# Altium footprint library MCU Board.PCBLIB: 34 footprints (part 2 of 3)
Each footprint in its own frame and in the unit in brackets; x right, y up, seen from the top. Pads: shape width x height; smd on the part's side, far side on the other; paste and mask are expansions set on the pad; w line width, h text height; cw(c..) or ccw(c..) is an arc to the next point about the centre after c.
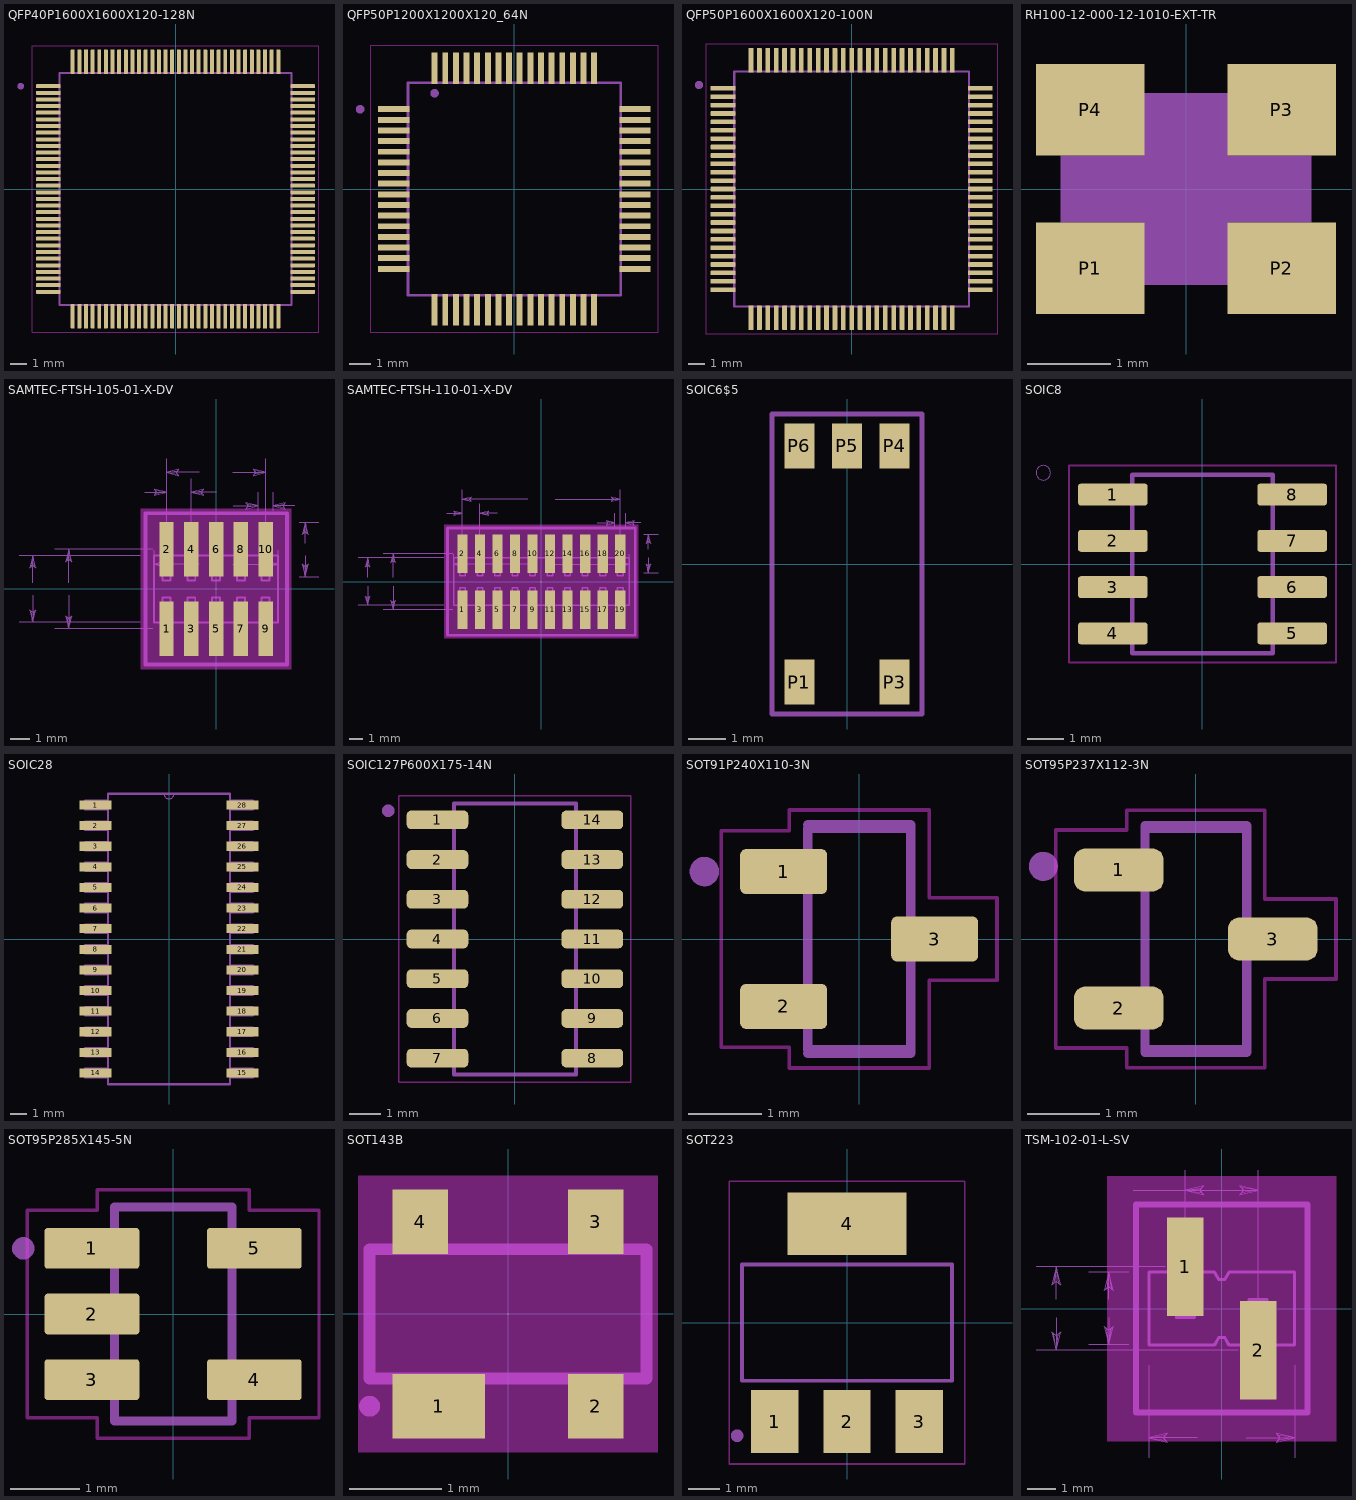
[diagram p1: the footprints below, top view; thin cyan lines are the x and y axes]

## QFP40P1600X1600X120-128N [mm]
pads (128):
  rrect25% 1.47x0.24 smd: 1(-7.67,6.2) 2(-7.67,5.8) 3(-7.67,5.4) 4(-7.67,5) 5(-7.67,4.6) 6(-7.67,4.2) 7(-7.67,3.8) 8(-7.67,3.4) 9(-7.67,3) 10(-7.67,2.6) 11(-7.67,2.2) 12(-7.67,1.8) 13(-7.67,1.4) 14(-7.67,1) 15(-7.67,0.6) 16(-7.67,0.2) 17(-7.67,-0.2) 18(-7.67,-0.6) 19(-7.67,-1) 20(-7.67,-1.4) 21(-7.67,-1.8) 22(-7.67,-2.2) 23(-7.67,-2.6) 24(-7.67,-3) 25(-7.67,-3.4) 26(-7.67,-3.8) 27(-7.67,-4.2) 28(-7.67,-4.6) 29(-7.67,-5) 30(-7.67,-5.4) 31(-7.67,-5.8) 32(-7.67,-6.2) 65(7.67,-6.2) 66(7.67,-5.8) 67(7.67,-5.4) 68(7.67,-5) 69(7.67,-4.6) 70(7.67,-4.2) 71(7.67,-3.8) 72(7.67,-3.4) 73(7.67,-3) 74(7.67,-2.6) 75(7.67,-2.2) 76(7.67,-1.8) 77(7.67,-1.4) 78(7.67,-1) 79(7.67,-0.6) 80(7.67,-0.2) 81(7.67,0.2) 82(7.67,0.6) 83(7.67,1) 84(7.67,1.4) 85(7.67,1.8) 86(7.67,2.2) 87(7.67,2.6) 88(7.67,3) 89(7.67,3.4) 90(7.67,3.8) 91(7.67,4.2) 92(7.67,4.6) 93(7.67,5) 94(7.67,5.4) 95(7.67,5.8) 96(7.67,6.2)
  rrect25% 0.24x1.47 smd: 33(-6.2,-7.67) 34(-5.8,-7.67) 35(-5.4,-7.67) 36(-5,-7.67) 37(-4.6,-7.67) 38(-4.2,-7.67) 39(-3.8,-7.67) 40(-3.4,-7.67) 41(-3,-7.67) 42(-2.6,-7.67) 43(-2.2,-7.67) 44(-1.8,-7.67) 45(-1.4,-7.67) 46(-1,-7.67) 47(-0.6,-7.67) 48(-0.2,-7.67) 49(0.2,-7.67) 50(0.6,-7.67) 51(1,-7.67) 52(1.4,-7.67) 53(1.8,-7.67) 54(2.2,-7.67) 55(2.6,-7.67) 56(3,-7.67) 57(3.4,-7.67) 58(3.8,-7.67) 59(4.2,-7.67) 60(4.6,-7.67) 61(5,-7.67) 62(5.4,-7.67) 63(5.8,-7.67) 64(6.2,-7.67) 97(6.2,7.67) 98(5.8,7.67) 99(5.4,7.67) 100(5,7.67) 101(4.6,7.67) 102(4.2,7.67) 103(3.8,7.67) 104(3.4,7.67) 105(3,7.67) 106(2.6,7.67) 107(2.2,7.67) 108(1.8,7.67) 109(1.4,7.67) 110(1,7.67) 111(0.6,7.67) 112(0.2,7.67) 113(-0.2,7.67) 114(-0.6,7.67) 115(-1,7.67) 116(-1.4,7.67) 117(-1.8,7.67) 118(-2.2,7.67) 119(-2.6,7.67) 120(-3,7.67) 121(-3.4,7.67) 122(-3.8,7.67) 123(-4.2,7.67) 124(-4.6,7.67) 125(-5,7.67) 126(-5.4,7.67) 127(-5.8,7.67) 128(-6.2,7.67)
Top keep-out:
  lines w0.05: -8.655,-8.655 8.655,-8.655 8.655,8.655 -8.655,8.655 -8.655,-8.655
tDocu:
  circle w0.2: c-9.34,6.2 r0.1
  lines w0.127: -7,-7 7,-7 7,7 -7,7 -7,-7
tPlace:
  circle w0.2: c-9.34,6.2 r0.1
  lines w0.127: -7,-6.64 -7,-7 -6.64,-7 ; -7,6.64 -7,7 -6.64,7 ; 6.64,-7 7,-7 7,-6.64 ; 6.64,7 7,7 7,6.64

## QFP50P1200X1200X120_64N [mil]
pads (64):
  rect 57.87x11.02 smd: 1(-223.23,147.64) 2(-223.23,127.95) 3(-223.23,108.27) 4(-223.23,88.58) 5(-223.23,68.9) 6(-223.23,49.21) 7(-223.23,29.53) 8(-223.23,9.84) 9(-223.23,-9.84) 10(-223.23,-29.53) 11(-223.23,-49.21) 12(-223.23,-68.9) 13(-223.23,-88.58) 14(-223.23,-108.27) 15(-223.23,-127.95) 16(-223.23,-147.64) 33(223.23,-147.64) 34(223.23,-127.95) 35(223.23,-108.27) 36(223.23,-88.58) 37(223.23,-68.9) 38(223.23,-49.21) 39(223.23,-29.53) 40(223.23,-9.84) 41(223.23,9.84) 42(223.23,29.53) 43(223.23,49.21) 44(223.23,68.9) 45(223.23,88.58) 46(223.23,108.27) 47(223.23,127.95) 48(223.23,147.64)
  rect 11.02x57.87 smd: 17(-147.64,-223.23) 18(-127.95,-223.23) 19(-108.27,-223.23) 20(-88.58,-223.23) 21(-68.9,-223.23) 22(-49.21,-223.23) 23(-29.53,-223.23) 24(-9.84,-223.23) 25(9.84,-223.23) 26(29.53,-223.23) 27(49.21,-223.23) 28(68.9,-223.23) 29(88.58,-223.23) 30(108.27,-223.23) 31(127.95,-223.23) 32(147.64,-223.23) 49(147.64,223.23) 50(127.95,223.23) 51(108.27,223.23) 52(88.58,223.23) 53(68.9,223.23) 54(49.21,223.23) 55(29.53,223.23) 56(9.84,223.23) 57(-9.84,223.23) 58(-29.53,223.23) 59(-49.21,223.23) 60(-68.9,223.23) 61(-88.58,223.23) 62(-108.27,223.23) 63(-127.95,223.23) 64(-147.64,223.23)
Top keep-out:
  lines w1.97: -265.75,-265.75 265.75,-265.75 265.75,265.75 -265.75,265.75 -265.75,-265.75
tDocu:
  circle w7.87: c-147.64,177.17 r3.94
  lines w5: -196.85,-196.85 196.85,-196.85 196.85,196.85 -196.85,196.85 -196.85,-196.85
tPlace:
  circle w7.87: c-285.43,147.64 r3.94
  lines w5: -196.85,-160.24 -196.85,-196.85 -160.24,-196.85 ; -196.85,160.24 -196.85,196.85 -160.24,196.85 ; 160.24,-196.85 196.85,-196.85 196.85,-160.24 ; 160.24,196.85 196.85,196.85 196.85,160.24

## QFP50P1600X1600X120-100N [mm]
pads (100):
  rrect25% 1.47x0.28 smd: 1(-7.67,6) 2(-7.67,5.5) 3(-7.67,5) 4(-7.67,4.5) 5(-7.67,4) 6(-7.67,3.5) 7(-7.67,3) 8(-7.67,2.5) 9(-7.67,2) 10(-7.67,1.5) 11(-7.67,1) 12(-7.67,0.5) 13(-7.67,0) 14(-7.67,-0.5) 15(-7.67,-1) 16(-7.67,-1.5) 17(-7.67,-2) 18(-7.67,-2.5) 19(-7.67,-3) 20(-7.67,-3.5) 21(-7.67,-4) 22(-7.67,-4.5) 23(-7.67,-5) 24(-7.67,-5.5) 25(-7.67,-6) 51(7.67,-6) 52(7.67,-5.5) 53(7.67,-5) 54(7.67,-4.5) 55(7.67,-4) 56(7.67,-3.5) 57(7.67,-3) 58(7.67,-2.5) 59(7.67,-2) 60(7.67,-1.5) 61(7.67,-1) 62(7.67,-0.5) 63(7.67,0) 64(7.67,0.5) 65(7.67,1) 66(7.67,1.5) 67(7.67,2) 68(7.67,2.5) 69(7.67,3) 70(7.67,3.5) 71(7.67,4) 72(7.67,4.5) 73(7.67,5) 74(7.67,5.5) 75(7.67,6)
  rrect25% 0.28x1.47 smd: 26(-6,-7.67) 27(-5.5,-7.67) 28(-5,-7.67) 29(-4.5,-7.67) 30(-4,-7.67) 31(-3.5,-7.67) 32(-3,-7.67) 33(-2.5,-7.67) 34(-2,-7.67) 35(-1.5,-7.67) 36(-1,-7.67) 37(-0.5,-7.67) 38(0,-7.67) 39(0.5,-7.67) 40(1,-7.67) 41(1.5,-7.67) 42(2,-7.67) 43(2.5,-7.67) 44(3,-7.67) 45(3.5,-7.67) 46(4,-7.67) 47(4.5,-7.67) 48(5,-7.67) 49(5.5,-7.67) 50(6,-7.67) 76(6,7.67) 77(5.5,7.67) 78(5,7.67) 79(4.5,7.67) 80(4,7.67) 81(3.5,7.67) 82(3,7.67) 83(2.5,7.67) 84(2,7.67) 85(1.5,7.67) 86(1,7.67) 87(0.5,7.67) 88(0,7.67) 89(-0.5,7.67) 90(-1,7.67) 91(-1.5,7.67) 92(-2,7.67) 93(-2.5,7.67) 94(-3,7.67) 95(-3.5,7.67) 96(-4,7.67) 97(-4.5,7.67) 98(-5,7.67) 99(-5.5,7.67) 100(-6,7.67)
Top keep-out:
  lines w0.05: -8.66,-8.66 8.66,-8.66 8.66,8.66 -8.66,8.66 -8.66,-8.66
tDocu:
  circle w0.24: c-9.1,6.2 r0.12
  lines w0.127: -7,-7 7,-7 7,7 -7,7 -7,-7
tPlace:
  circle w0.24: c-9.1,6.2 r0.12
  lines w0.127: -7,-6.4 -7,-7 -6.4,-7 ; -7,6.4 -7,7 -6.4,7 ; 6.4,-7 7,-7 7,-6.4 ; 6.4,7 7,7 7,6.4

## RH100-12-000-12-1010-EXT-TR [mil]
pads (4):
  rect 51.18x43.31 smd: P1(-45.28,-37.4) P2(45.28,-37.4) P3(45.28,37.4) P4(-45.28,37.4)
tPlace:
  region: -19.69,-45.28 -19.69,45.28 19.69,45.28 19.69,-45.28
  region: -59.06,-15.75 -59.06,15.75 59.06,15.75 59.06,-15.75

## SAMTEC-FTSH-105-01-X-DV [mil]
pads (10):
  rect 29.13x109.84 smd mask+0: 1(-100,-80) 2(-100,80) 3(-50,-80) 4(-50,80) 5(0,-80) 6(0,80) 7(50,-80) 8(50,80) 9(100,-80) 10(100,80)
Top keep-out:
  region: -151.97,-161.93 -151.97,161.93 151.97,161.93 151.97,-161.93
Top Paste:
  region: -114.57,-134.92 -114.57,-25.08 -85.43,-25.08 -85.43,-134.92
  region: -114.57,25.08 -114.57,134.92 -85.43,134.92 -85.43,25.08
  region: -64.57,-134.92 -64.57,-25.08 -35.43,-25.08 -35.43,-134.92
  region: -64.57,25.08 -64.57,134.92 -35.43,134.92 -35.43,25.08
  region: -14.57,-134.92 -14.57,-25.08 14.57,-25.08 14.57,-134.92
  region: -14.57,25.08 -14.57,134.92 14.57,134.92 14.57,25.08
  region: 35.43,-134.92 35.43,-25.08 64.57,-25.08 64.57,-134.92
  region: 35.43,25.08 35.43,134.92 64.57,134.92 64.57,25.08
  region: 85.43,-134.92 85.43,-25.08 114.57,-25.08 114.57,-134.92
  region: 85.43,25.08 85.43,134.92 114.57,134.92 114.57,25.08
Top Solder:
  region: -116.57,-136.93 -116.57,-23.07 -83.43,-23.07 -83.43,-136.93
  region: -116.57,23.07 -116.57,136.93 -83.43,136.93 -83.43,23.07
  region: -66.57,-136.93 -66.57,-23.07 -33.43,-23.07 -33.43,-136.93
  region: -66.57,23.07 -66.57,136.93 -33.43,136.93 -33.43,23.07
  region: -16.57,-136.93 -16.57,-23.07 16.57,-23.07 16.57,-136.93
  region: -16.57,23.07 -16.57,136.93 16.57,136.93 16.57,23.07
  region: 33.43,-136.93 33.43,-23.07 66.57,-23.07 66.57,-136.93
  region: 33.43,23.07 33.43,136.93 66.57,136.93 66.57,23.07
  region: 83.43,-136.93 83.43,-23.07 116.57,-23.07 116.57,-136.93
  region: 83.43,23.07 83.43,136.93 116.57,136.93 116.57,23.07
tDocu:
  lines w3.94: -107.99,-67.48 -107.99,-115 -92.01,-115 -92.01,-67.48 ; -107.99,-33.5 -92.01,-33.5 ; -107.99,67.48 -107.99,115 -92.01,115 -92.01,67.48 ; -57.99,-67.48 -57.99,-115 -42.01,-115 -42.01,-67.48 ; -57.99,-33.5 -42.01,-33.5 ; -57.99,67.48 -57.99,115 -42.01,115 -42.01,67.48 ; -7.99,-67.48 -7.99,-115 7.99,-115 7.99,-67.48 ; -7.99,-33.5 7.99,-33.5 ; -7.99,67.48 -7.99,115 7.99,115 7.99,67.48 ; 42.01,-67.48 42.01,-115 57.99,-115 57.99,-67.48 ; 42.01,-33.5 57.99,-33.5 ; 42.01,67.48 42.01,115 57.99,115 57.99,67.48 ; 92.01,-67.48 92.01,-115 107.99,-115 107.99,-67.48 ; 92.01,-33.5 107.99,-33.5 ; 92.01,67.48 92.01,115 107.99,115 107.99,67.48 ; -125,-67.48 -75,-67.48 -25,-67.48 25,-67.48 75,-67.48 125,-67.48 125,67.48 75,67.48 25,67.48 -25,67.48 -75,67.48 -125,67.48 -125,-67.48 ; -107.99,-32.99 -92.01,-32.99 -92.01,-17.01 -107.99,-17.01 -107.99,-32.99 ; -107.99,17.01 -92.01,17.01 -92.01,32.99 -107.99,32.99 -107.99,17.01 ; -57.99,-32.99 -42.01,-32.99 -42.01,-17.01 -57.99,-17.01 -57.99,-32.99 ; -57.99,17.01 -42.01,17.01 -42.01,32.99 -57.99,32.99 -57.99,17.01 ; -7.99,-32.99 7.99,-32.99 7.99,-17.01 -7.99,-17.01 -7.99,-32.99 ; -7.99,17.01 7.99,17.01 7.99,32.99 -7.99,32.99 -7.99,17.01 ; 42.01,-32.99 57.99,-32.99 57.99,-17.01 42.01,-17.01 42.01,-32.99 ; 42.01,17.01 57.99,17.01 57.99,32.99 42.01,32.99 42.01,17.01 ; 92.01,-32.99 107.99,-32.99 107.99,-17.01 92.01,-17.01 92.01,-32.99 ; 92.01,17.01 107.99,17.01 107.99,32.99 92.01,32.99 92.01,17.01
  text "1" at -198.07,-112.01 h77.5
  text "2" at -198.07,62.01 h77.5
  text "9" at 166.57,-112.01 h77.5
  text "10" at 166.57,62.01 h77.5
tPlace:
  lines w7.87: -142.72,-152.68 -142.72,152.68 142.72,152.68 142.72,-152.68 -142.72,-152.68
  text "1" at -198.07,-112.01 h77.5
  text "2" at -198.07,62.01 h77.5
  text "9" at 166.57,-112.01 h77.5
  text "10" at 166.57,62.01 h77.5
Notes:
  drawing of 154 lines, arcs and shapes, not listed
  text "3.429" at -395.98,-5 h15.5
  text "4.064" at -323.5,-5 h15.5
  text "1.270" at -203.5,190 h15.5
  text "6.350" at -25.98,45 h15.5
  text "5.080" at -25.98,230 h15.5
  text "2.794" at 154.02,75 h15.5
  text "0.762" at 166.5,162.52 h15.5
_bDocu:
  lines w3.94: -142.72,-152.68 -142.72,152.68 142.72,152.68 142.72,-152.68 -142.72,-152.68

## SAMTEC-FTSH-110-01-X-DV [mil]
pads (20):
  rect 29.13x109.84 smd mask+0: 1(-225,-80) 2(-225,80) 3(-175,-80) 4(-175,80) 5(-125,-80) 6(-125,80) 7(-75,-80) 8(-75,80) 9(-25,-80) 10(-25,80) 11(25,-80) 12(25,80) 13(75,-80) 14(75,80) 15(125,-80) 16(125,80) 17(175,-80) 18(175,80) 19(225,-80) 20(225,80)
Top keep-out:
  region: -276.97,-161.93 -276.97,161.93 276.97,161.93 276.97,-161.93
Top Paste:
  region: -239.57,-134.92 -239.57,-25.08 -210.43,-25.08 -210.43,-134.92
  region: -239.57,25.08 -239.57,134.92 -210.43,134.92 -210.43,25.08
  region: -189.57,-134.92 -189.57,-25.08 -160.43,-25.08 -160.43,-134.92
  region: -189.57,25.08 -189.57,134.92 -160.43,134.92 -160.43,25.08
  region: -139.57,-134.92 -139.57,-25.08 -110.43,-25.08 -110.43,-134.92
  region: -139.57,25.08 -139.57,134.92 -110.43,134.92 -110.43,25.08
  region: -89.57,-134.92 -89.57,-25.08 -60.43,-25.08 -60.43,-134.92
  region: -89.57,25.08 -89.57,134.92 -60.43,134.92 -60.43,25.08
  region: -39.57,-134.92 -39.57,-25.08 -10.43,-25.08 -10.43,-134.92
  region: -39.57,25.08 -39.57,134.92 -10.43,134.92 -10.43,25.08
  region: 10.43,-134.92 10.43,-25.08 39.57,-25.08 39.57,-134.92
  region: 10.43,25.08 10.43,134.92 39.57,134.92 39.57,25.08
  region: 60.43,-134.92 60.43,-25.08 89.57,-25.08 89.57,-134.92
  region: 60.43,25.08 60.43,134.92 89.57,134.92 89.57,25.08
  region: 110.43,-134.92 110.43,-25.08 139.57,-25.08 139.57,-134.92
  region: 110.43,25.08 110.43,134.92 139.57,134.92 139.57,25.08
  region: 160.43,-134.92 160.43,-25.08 189.57,-25.08 189.57,-134.92
  region: 160.43,25.08 160.43,134.92 189.57,134.92 189.57,25.08
  region: 210.43,-134.92 210.43,-25.08 239.57,-25.08 239.57,-134.92
  region: 210.43,25.08 210.43,134.92 239.57,134.92 239.57,25.08
Top Solder:
  region: -241.57,-136.93 -241.57,-23.07 -208.43,-23.07 -208.43,-136.93
  region: -241.57,23.07 -241.57,136.93 -208.43,136.93 -208.43,23.07
  region: -191.57,-136.93 -191.57,-23.07 -158.43,-23.07 -158.43,-136.93
  region: -191.57,23.07 -191.57,136.93 -158.43,136.93 -158.43,23.07
  region: -141.57,-136.93 -141.57,-23.07 -108.43,-23.07 -108.43,-136.93
  region: -141.57,23.07 -141.57,136.93 -108.43,136.93 -108.43,23.07
  region: -91.57,-136.93 -91.57,-23.07 -58.43,-23.07 -58.43,-136.93
  region: -91.57,23.07 -91.57,136.93 -58.43,136.93 -58.43,23.07
  region: -41.57,-136.93 -41.57,-23.07 -8.43,-23.07 -8.43,-136.93
  region: -41.57,23.07 -41.57,136.93 -8.43,136.93 -8.43,23.07
  region: 8.43,-136.93 8.43,-23.07 41.57,-23.07 41.57,-136.93
  region: 8.43,23.07 8.43,136.93 41.57,136.93 41.57,23.07
  region: 58.43,-136.93 58.43,-23.07 91.57,-23.07 91.57,-136.93
  region: 58.43,23.07 58.43,136.93 91.57,136.93 91.57,23.07
  region: 108.43,-136.93 108.43,-23.07 141.57,-23.07 141.57,-136.93
  region: 108.43,23.07 108.43,136.93 141.57,136.93 141.57,23.07
  region: 158.43,-136.93 158.43,-23.07 191.57,-23.07 191.57,-136.93
  region: 158.43,23.07 158.43,136.93 191.57,136.93 191.57,23.07
  region: 208.43,-136.93 208.43,-23.07 241.57,-23.07 241.57,-136.93
  region: 208.43,23.07 208.43,136.93 241.57,136.93 241.57,23.07
tDocu:
  drawing of 172 lines, arcs and shapes, not listed
  text "1" at -323.07,-112.01 h77.5
  text "2" at -323.07,62.01 h77.5
  text "19" at 291.57,-112.01 h77.5
  text "20" at 291.57,62.01 h77.5
tPlace:
  lines w7.87: -267.72,-152.68 -267.72,152.68 267.72,152.68 267.72,-152.68 -267.72,-152.68
  text "1" at -323.07,-112.01 h77.5
  text "2" at -323.07,62.01 h77.5
  text "19" at 291.57,-112.01 h77.5
  text "20" at 291.57,62.01 h77.5
Notes:
  drawing of 154 lines, arcs and shapes, not listed
  text "3.429" at -520.98,-5 h15.5
  text "4.064" at -448.5,-5 h15.5
  text "1.270" at -328.5,190 h15.5
  text "12.700" at -31.5,45 h15.5
  text "11.430" at -31.5,230 h15.5
  text "2.794" at 279.02,75 h15.5
  text "0.762" at 291.5,162.52 h15.5
_bDocu:
  lines w3.94: -267.72,-152.68 -267.72,152.68 267.72,152.68 267.72,-152.68 -267.72,-152.68

## SOIC6$5 [mil]
pads (5):
  rect 31.5x47.24 smd: P1(-50,-124.02) P3(50,-124.02) P4(50,124.02) P5(0,124.02) P6(-50,124.02)
tPlace:
  lines w5: -78.74,-157.48 -78.74,157.48 78.74,157.48 78.74,-157.48 -78.74,-157.48

## SOIC8 [mm]
pads (8):
  rrect25% 1.91x0.6 smd: 1(-2.46,1.905) 2(-2.46,0.635) 3(-2.46,-0.635) 4(-2.46,-1.905) 5(2.46,-1.905) 6(2.46,-0.635) 7(2.46,0.635) 8(2.46,1.905)
Top keep-out:
  lines w0.05: -3.665,-2.7 3.665,-2.7 3.665,2.7 -3.665,2.7 -3.665,-2.7
tDocu:
  circle w0: c-4.37,2.505 r0.2
  lines w0.127: -1.925,-2.45 1.925,-2.45 1.925,2.45 -1.925,2.45 -1.925,-2.45
tPlace:
  circle w0: c-4.37,2.505 r0.2
  lines w0.127: -1.925,-2.45 1.925,-2.45 ; -1.925,2.45 1.925,2.45

## SOIC28 [mil]
pads (28):
  rect 78x22 smd: 1(-178,325) 2(-178,275) 3(-178,225) 4(-178,175) 5(-178,125) 6(-178,75) 7(-178,25) 8(-178,-25) 9(-178,-75) 10(-178,-125) 11(-178,-175) 12(-178,-225) 13(-178,-275) 14(-178,-325) 15(178,-325) 16(178,-275) 17(178,-225) 18(178,-175) 19(178,-125) 20(178,-75) 21(178,-25) 22(178,25) 23(178,75) 24(178,125) 25(178,175) 26(178,225) 27(178,275) 28(178,325)
tDocu:
  lines w0: -12,352 ccw(c0,352) 12,352
  lines w6: -203,-335 -203,-315 -148,-315 -148,-335 -203,-335 ; -203,-285 -203,-265 -148,-265 -148,-285 -203,-285 ; -203,-235 -203,-215 -148,-215 -148,-235 -203,-235 ; -203,-185 -203,-165 -148,-165 -148,-185 -203,-185 ; -203,-135 -203,-115 -148,-115 -148,-135 -203,-135 ; -203,-85 -203,-65 -148,-65 -148,-85 -203,-85 ; -203,-35 -203,-15 -148,-15 -148,-35 -203,-35 ; -203,15 -203,35 -148,35 -148,15 -203,15 ; -203,65 -203,85 -148,85 -148,65 -203,65 ; -203,115 -203,135 -148,135 -148,115 -203,115 ; -203,165 -203,185 -148,185 -148,165 -203,165 ; -203,215 -203,235 -148,235 -148,215 -203,215 ; -203,265 -203,285 -148,285 -148,265 -203,265 ; -203,315 -203,335 -148,335 -148,315 -203,315 ; -148,-352 148,-352 148,352 12,352 -12,352 -148,352 -148,-352 ; 148,-335 148,-315 203,-315 203,-335 148,-335 ; 148,-285 148,-265 203,-265 203,-285 148,-285 ; 148,-235 148,-215 203,-215 203,-235 148,-235 ; 148,-185 148,-165 203,-165 203,-185 148,-185 ; 148,-135 148,-115 203,-115 203,-135 148,-135 ; 148,-85 148,-65 203,-65 203,-85 148,-85 ; 148,-35 148,-15 203,-15 203,-35 148,-35 ; 148,15 148,35 203,35 203,15 148,15 ; 148,65 148,85 203,85 203,65 148,65 ; 148,115 148,135 203,135 203,115 148,115 ; 148,165 148,185 203,185 203,165 148,165 ; 148,215 148,235 203,235 203,215 148,215 ; 148,265 148,285 203,285 203,265 148,265 ; 148,315 148,335 203,335 203,315 148,315
tPlace:
  lines w0: -12,352 ccw(c0,352) 12,352
  lines w6: -148,-352 148,-352 ; -148,352 -12,352 12,352 148,352

## SOIC127P600X175-14N [mil]
pads (14):
  rrect50% 77.56x23.62 smd: 1(-97.44,150) 2(-97.44,100) 3(-97.44,50) 4(-97.44,0) 5(-97.44,-50) 6(-97.44,-100) 7(-97.44,-150) 8(97.44,-150) 9(97.44,-100) 10(97.44,-50) 11(97.44,0) 12(97.44,50) 13(97.44,100) 14(97.44,150)
Top keep-out:
  lines w1.97: -146.06,-180.12 146.06,-180.12 146.06,180.12 -146.06,180.12 -146.06,-180.12
tDocu:
  circle w7.87: c-159.45,161.42 r3.94
  lines w5: -76.77,-170.28 76.77,-170.28 76.77,170.28 -76.77,170.28 -76.77,-170.28
tPlace:
  circle w7.87: c-159.45,161.42 r3.94
  lines w5: -46.06,-170.28 46.06,-170.28 ; -46.06,170.28 46.06,170.28

## SOT91P240X110-3N [mil]
pads (3):
  rrect25% 46.46x24.02 smd: 1(-40.35,36.02) 2(-40.35,-36.02) 3(40.35,0)
Top keep-out:
  lines w1.97: -73.62,-57.87 -37.4,-57.87 -37.4,-68.9 37.4,-68.9 37.4,-22.05 73.62,-22.05 73.62,22.05 37.4,22.05 37.4,68.9 -37.4,68.9 -37.4,57.87 -73.62,57.87 -73.62,-57.87
tDocu:
  circle w7.87: c-82.68,36.02 r3.94
  lines w5: -27.56,-59.06 27.56,-59.06 27.56,59.06 -27.56,59.06 -27.56,-59.06
tPlace:
  circle w7.87: c-82.68,36.02 r3.94
  lines w5: -27.56,-61.02 27.56,-61.02 27.56,-24.8 ; -27.56,61.02 27.56,61.02 27.56,24.8

## SOT95P237X112-3N [mil]
pads (3):
  rrect50% 48.43x23.23 smd: 1(-41.73,37.4) 2(-41.73,-37.4) 3(41.73,0)
Top keep-out:
  lines w1.97: -75.98,-59.06 -75.98,59.06 -37.4,59.06 -37.4,69.69 37.4,69.69 37.4,21.65 75.98,21.65 75.98,-21.65 37.4,-21.65 37.4,-69.69 -37.4,-69.69 -37.4,-59.06 -75.98,-59.06
tDocu:
  circle w7.87: c-82.68,39.37 r3.94
  lines w5: -27.56,-59.84 -27.56,59.84 27.56,59.84 27.56,-59.84 -27.56,-59.84
tPlace:
  circle w7.87: c-82.68,39.37 r3.94
  lines w5: -27.56,-61.42 27.56,-61.42 27.56,-24.41 ; -27.56,61.42 27.56,61.42 27.56,24.41

## SOT95P285X145-5N [mm]
pads (5):
  rrect15% 1.37x0.59 smd: 1(-1.175,0.95) 2(-1.175,0) 3(-1.175,-0.95) 4(1.175,-0.95) 5(1.175,0.95)
Top keep-out:
  lines w0.05: -2.11,-1.5 -2.11,1.5 -1.1,1.5 -1.1,1.8 1.1,1.8 1.1,1.5 2.11,1.5 2.11,-1.5 1.1,-1.5 1.1,-1.8 -1.1,-1.8 -1.1,-1.5 -2.11,-1.5
tDocu:
  lines w0.127: -0.85,-1.55 0.85,-1.55 0.85,1.55 -0.85,1.55 -0.85,-1.55
tPlace:
  circle w0.2: c-2.169,0.95 r0.062
  lines w0.127: -0.85,-1.45 -0.85,-1.55 0.85,-1.55 0.85,-1.45 ; -0.85,1.45 -0.85,1.55 0.85,1.55 0.85,1.45

## SOT143B [mm]
pads (4):
  rect 1x0.7 smd: 1(-0.75,-1)
  rect 0.6x0.7 smd: 2(0.95,-1) 3(0.95,1) 4(-0.95,1)
Top keep-out:
  region: -1.626,-1.501 -1.626,1.5 1.625,1.5 1.625,-1.501
Top Paste:
  region: -1.202,-1.302 -1.202,-0.7 -0.3,-0.7 -0.3,-1.302
  region: 0.701,-1.301 0.701,-0.7 1.2,-0.7 1.2,-1.301
  region: 0.701,0.701 0.701,1.3 1.2,1.3 1.2,0.701
  region: -1.202,0.701 -1.202,1.3 -0.7,1.3 -0.7,0.701
tDocu:
  region: -1.192,0.651 -1.192,1.3 -0.71,1.3 -0.71,0.651
  region: 0.712,0.652 0.712,1.3 1.19,1.3 1.19,0.652
  region: 0.711,-1.303 0.711,-0.65 1.19,-0.65 1.19,-1.303
  region: -1.194,-1.304 -1.194,-0.65 -0.3,-0.65 -0.3,-1.304
  lines w0.127: -1.5,-0.7 1.5,-0.7 1.5,0.7 -1.5,0.7 -1.5,-0.7
tPlace:
  circle w0.127: c-1.5,-1 r0.05

## SOT223 [mm]
pads (4):
  rect 1.5x2 smd: 1(-2.3,-3.15) 2(0,-3.15) 3(2.3,-3.15)
  rect 3.8x2 smd: 4(0,3.15)
Top keep-out:
  lines w0.05: -3.75,-4.5 3.75,-4.5 3.75,4.5 -3.75,4.5 -3.75,-4.5
tDocu:
  lines w0.127: -3.35,-1.85 -3.35,1.85 3.35,1.85 3.35,-1.85 -3.35,-1.85
tPlace:
  circle w0.2: c-3.5,-3.6 r0.1
  lines w0.127: -3.35,-1.85 -3.35,1.85 3.35,1.85 3.35,-1.85 -3.35,-1.85

## TSM-102-01-L-SV [mm]
pads (2):
  rect 1.27x3.43 smd mask+0: 1(-1.27,1.46) 2(1.27,-1.46)
Top keep-out:
  region: 3.987,4.623 -3.987,4.623 -3.987,-4.624 3.987,-4.624
Top Paste:
  region: -1.905,-0.255 -1.905,3.175 -0.635,3.175 -0.635,-0.255
  region: 0.635,-3.175 0.635,0.255 1.905,0.255 1.905,-3.175
Top Solder:
  region: -1.956,-0.306 -1.956,3.226 -0.584,3.226 -0.584,-0.306
  region: 0.584,-3.226 0.584,0.306 1.956,0.306 1.956,-3.226
tDocu:
  lines w0.1: -1.586,1.27 -1.586,2.642 -0.951,2.642 -0.951,1.27 ; 0.951,-1.27 0.951,-2.642 1.586,-2.642 1.586,-1.27 ; -2.54,-1.27 -0.253,-1.27 -0.106,-1.016 0,-1.016 0.106,-1.016 0.253,-1.27 2.54,-1.27 2.54,-1.016 2.54,1.016 2.54,1.27 0.253,1.27 0.106,1.016 0,1.016 -0.106,1.016 -0.253,1.27 -2.54,1.27 -2.54,1.016 -2.54,-1.016 -2.54,-1.27 ; -1.586,-0.318 -1.586,0.318 -0.951,0.318 -0.951,-0.318 -1.586,-0.318 ; 0.951,-0.318 0.951,0.318 1.586,0.318 1.586,-0.318 0.951,-0.318
  text "1" at -4.36,0.826 h1.97
  text "2" at 3.331,-2.096 h1.97
tPlace:
  lines w0.2: -2.99,-3.627 -2.99,3.626 2.99,3.626 2.99,-3.627 -2.99,-3.627
  text "1" at -4.36,0.826 h1.97
  text "2" at 3.331,-2.096 h1.97
Notes:
  lines w0: -6.48,-1.46 0.569,-1.46 ; -6.48,1.46 -1.971,1.46 ; -5.778,-0.318 -5.778,-1.46 ; -5.778,0.318 -5.778,1.46 ; -4.638,-1.27 -3.241,-1.27 ; -4.638,1.27 -3.241,1.27 ; -3.937,-0.318 -3.937,-1.27 ; -3.937,0.318 -3.937,1.27 ; -3.086,4.128 -1.27,4.128 ; -2.54,-5.21 -2.54,-1.971 ; -1.27,2.162 -1.27,4.829 ; -0.851,-4.508 -2.54,-4.508 ; 0.851,-4.508 2.54,-4.508 ; 1.27,-0.759 1.27,4.829 ; 2.54,-5.21 2.54,-1.971 ; -5.937,-0.826 -5.778,-1.46 ; -5.937,-0.826 -5.778,-0.952 ; -5.937,-0.826 -5.858,-0.889 -5.778,-1.46 ; -5.778,-1.46 -5.62,-0.826 -5.778,-0.952 ; -5.778,-1.46 -5.699,-0.889 -5.778,-0.952 ; -5.778,-1.46 -5.778,-0.952 ; -5.778,0.952 -5.937,0.826 -5.778,1.46 ; -5.778,0.952 -5.62,0.826 ; -5.778,0.952 -5.858,0.889 -5.778,1.46 ; -5.778,0.952 -5.778,1.46 ; -5.778,1.46 -5.62,0.826 ; -5.778,1.46 -5.699,0.889 -5.62,0.826 ; -4.096,-0.635 -3.937,-1.27 ; -4.096,-0.635 -3.937,-0.762 ; -4.096,-0.635 -4.016,-0.698 -3.937,-1.27 ; -3.937,-1.27 -3.778,-0.635 -3.937,-0.762 ; -3.937,-1.27 -3.858,-0.698 -3.937,-0.762 ; -3.937,-1.27 -3.937,-0.762 ; -3.937,0.762 -4.096,0.635 -3.937,1.27 ; -3.937,0.762 -3.778,0.635 ; -3.937,0.762 -4.016,0.698 -3.937,1.27 ; -3.937,0.762 -3.937,1.27 ; -3.937,1.27 -3.778,0.635 ; -3.937,1.27 -3.858,0.698 -3.778,0.635 ; -2.54,-4.508 -1.905,-4.35 ; -2.54,-4.508 -1.905,-4.667 -2.032,-4.508 ; -2.54,-4.508 -1.968,-4.588 -2.032,-4.508 ; -2.54,-4.508 -2.032,-4.508 ; -2.54,-4.508 -1.968,-4.429 -1.905,-4.35 ; -2.032,-4.508 -1.905,-4.35 ; -1.27,4.128 -0.635,4.286 ; -1.27,4.128 -0.635,3.969 -0.762,4.128 ; -1.27,4.128 -0.698,4.048 -0.762,4.128 ; -1.27,4.128 -0.762,4.128 ; -1.27,4.128 -0.698,4.207 -0.635,4.286 ; -1.27,4.128 1.27,4.128 ; -0.762,4.128 -0.635,4.286 ; 0.635,3.969 1.27,4.128 ; 0.635,3.969 0.762,4.128 ; 0.635,3.969 0.698,4.048 1.27,4.128 ; 0.762,4.128 0.635,4.286 1.27,4.128 ; 0.762,4.128 0.698,4.207 1.27,4.128 ; 0.762,4.128 1.27,4.128 ; 1.905,-4.667 2.54,-4.508 ; 1.905,-4.667 2.032,-4.508 ; 1.905,-4.667 1.968,-4.588 2.54,-4.508 ; 2.032,-4.508 1.905,-4.35 2.54,-4.508 ; 2.032,-4.508 1.968,-4.429 2.54,-4.508 ; 2.032,-4.508 2.54,-4.508
  text "2.921" at -6.439,-0.127 h0.39
  text "2.540" at -4.597,-0.127 h0.39
  text "2.540" at -4.597,4 h0.39
  text "5.080" at -0.66,-4.636 h0.39
_bDocu:
  lines w0.1: -2.99,-3.627 -2.99,3.626 2.99,3.626 2.99,-3.627 -2.99,-3.627